# EAGLE library part NKK-NP01-SINGLECOLOR (library SKAARHOJ)
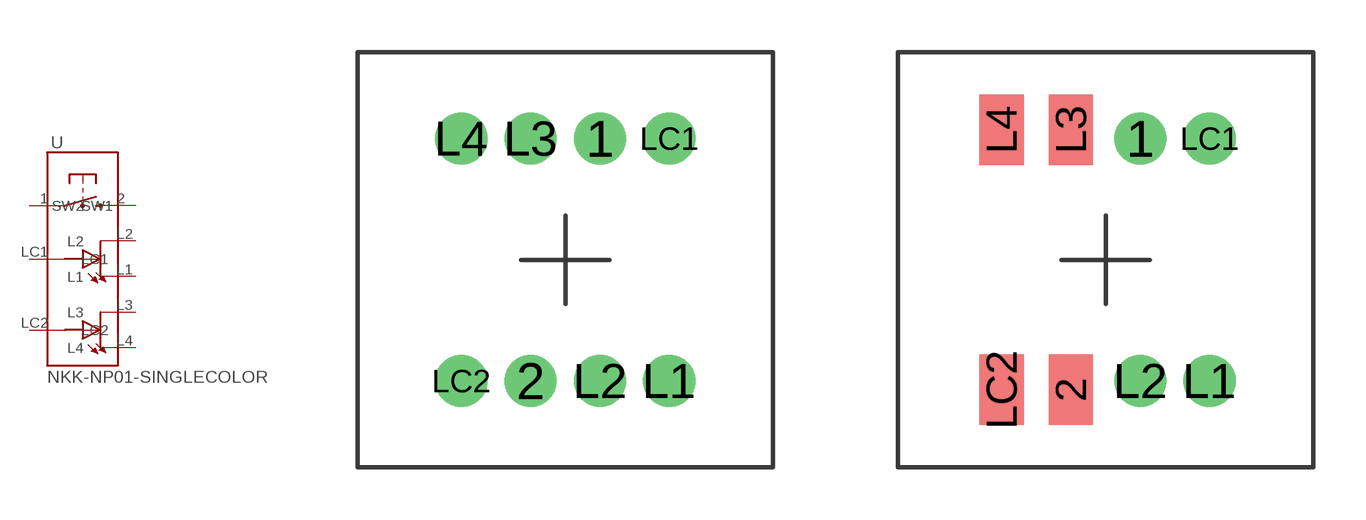
[diagram p17: symbol with the pads of NKK-NP01; footprints NKK-NP01, NKK-NP01_LESSHOLES]

Designator prefix -

## NKK-NP01-SINGLECOLOR  [NKK-NP01]
1  SW1
2  SW2
L1  L1
L2  L2
L3  L3
L4  L4
LC1  LC1
LC2  LC2

## NKK-NP01-SINGLECOLORLESSHOLES  [NKK-NP01_LESSHOLES]
Pads as for NKK-NP01

## Footprint NKK-NP01 (pad centres in mm)
drill 1: 1 1,3.5; 2 -1,-3.5; L1 3,-3.5; L2 1,-3.5; L3 -1,3.5; L4 -3,3.5; LC1 3,3.5; LC2 -3,-3.5

## Footprint NKK-NP01_LESSHOLES (pad centres in mm)
drill 1: 1 1,3.5; L1 3,-3.5; L2 1,-3.5; LC1 3,3.5
smd 1.27 x 2.032: 2 -1,-3.754; L3 -1,3.754; L4 -3,3.754; LC2 -3,-3.754